# Altium footprint library LPEDT_Parts.PcbLib: 27 footprints (part 1 of 2)
Each footprint in its own frame and in the unit in brackets; x right, y up, seen from the top. Pads: shape width x height; smd on the part's side, far side on the other; paste and mask are expansions set on the pad; w line width, h text height; cw(c..) or ccw(c..) is an arc to the next point about the centre after c.
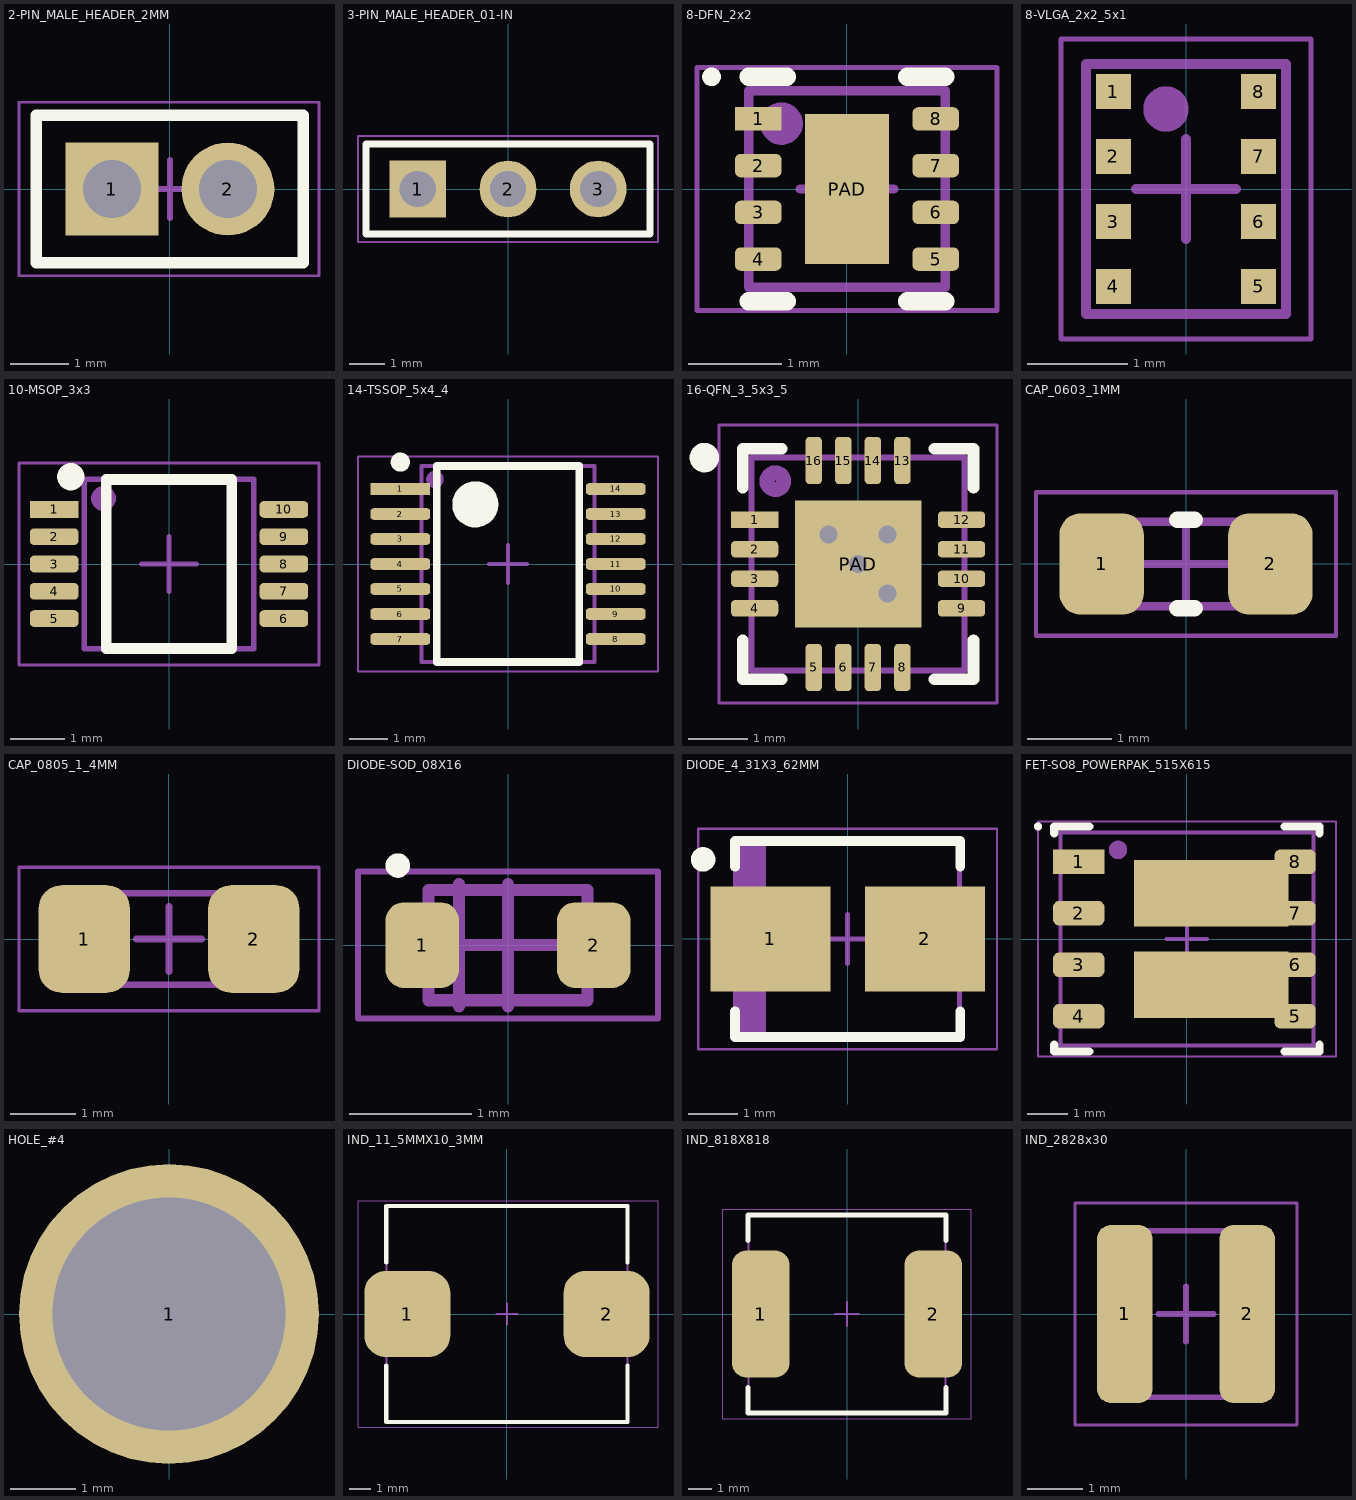
[diagram p0: the footprints below, top view; thin cyan lines are the x and y axes]

## 2-PIN_MALE_HEADER_2MM [mm] "2MM SQ Post Terminal Strip Assembly, 1x2 Pins, Vertical, 2mm Pitch, Male"
height 8.58
pads (2):
  rect 1.6x1.6 hole 1: 1(-1,0)
  round 1.6 hole 1: 2(1,0)
Top Overlay:
  lines w0.2: -2.3,-1.27 2.3,-1.27 2.3,1.27 -2.3,1.27 -2.3,-1.27
Mechanical 13:
  lines w0.1: -2.3,-1.3 2.3,-1.3 2.3,1.3 -2.3,1.3 -2.3,-1.3
  text ".Designator" at -1.1,-2.1 h1.3
Mechanical 15:
  lines w0.05: -2.6,-1.495 -2.6,1.495 2.57,1.495 2.57,0.747 2.57,-0.748 2.57,-1.495 -2.6,-1.495
  lines w0.1: -0.5,0 0.5,0 ; 0,-0.5 0,0.5

## 3-PIN_MALE_HEADER_01-IN [mm] ".025 SQ Post Terminal Strip Assembly, 1x3 Pins, Vertical, 2.54mm Pitch, Male"
height 8.58
pads (3):
  rect 1.6x1.6 hole 1.02: 1(-2.54,0)
  round 1.6 hole 1.02: 2(0,0) 3(2.54,0)
Top Overlay:
  lines w0.2: -4,-1.27 -4,1.27 4,1.27 4,-1.27 -4,-1.27
Mechanical 13:
  lines w0.1: -4,-1.27 -4,1.27 4,1.27 4,-1.27 -4,-1.27
  text ".Designator" at -1.524,-0.635 h1.3
Mechanical 15:
  lines w0.05: -4.225,-1.495 -4.225,1.495 4.225,1.495 4.225,-1.495 -4.225,-1.495
  lines w0.1: -0.5,0 0.5,0 ; 0,-0.5 0,0.5
3D body "User Library-Header_Male_3Pin.STEP": height 8.54, standoff -3, extent -3.81,-1.27 3.81,1.22

## 8-DFN_2x2 [mm] "DFN, 8-Leads, Body 2.00x2.00mm, Pitch 0.50mm, Thermal Pad 1.60x0.69mm, IPC Medium Density"
pads (9):
  rect 0.5x0.25 smd mask+0.07: 1(-0.95,0.75)
  rrect50% 0.5x0.25 smd mask+0.07: 2(-0.95,0.25) 3(-0.95,-0.25) 4(-0.95,-0.75) 5(0.95,-0.75) 6(0.95,-0.25) 7(0.95,0.25) 8(0.95,0.75)
  rect 0.9x1.6 smd paste-1 mask+0.07: PAD(0,0)
Top Overlay:
  circle w0.1: c-1.45,1.2 r0.05
  lines w0.2: -1.05,-1.2 -0.645,-1.2 ; -1.05,1.2 -0.645,1.2 ; 0.645,-1.2 1.05,-1.2 ; 0.645,1.2 1.05,1.2
Top Paste:
  region: 0.45,-0.1 -0.45,-0.1 -0.45,-0.8 0.45,-0.8
  rectangle: -0.45,0.1 0.45,0.8
Mechanical 13:
  circle w0.254: c-0.7,0.7 r0.1
  lines w0.1: -1.05,-1.05 -1.05,1.05 1.05,1.05 1.05,-1.05 -1.05,-1.05
  text ".Designator" at -0.8,-0.583 h0.65
Mechanical 15:
  lines w0.05: -1.605,-1.3 -1.605,1.3 1.605,1.3 1.605,-1.3 -1.605,-1.3
  lines w0.1: -0.5,0 0.5,0 ; 0,-0.5 0,0.5
3D body: height 0.8, standoff 0, extent -1.05,-1.05 1.05,1.05

## 8-VLGA_2x2_5x1 [mm] "VLGA, 8-Leads, Body 2.00x2.50mmx1.00mm, Pitch 0.65mm"
height 1
pads (8):
  rect 0.35x0.35 smd: 1(-0.725,0.975) 2(-0.725,0.325) 3(-0.725,-0.325) 4(-0.725,-0.975) 5(0.725,-0.975) 6(0.725,-0.325) 7(0.725,0.325) 8(0.725,0.975)
Mechanical 13:
  circle w0.254: c-0.2,0.8 r0.1
  lines w0.1: -1,-1.25 1,-1.25 1,1.25 -1,1.25 -1,-1.25
  text ".Designator" at 0.133,-1 h0.5
Mechanical 15:
  lines w0.05: -1.25,-1.5 1.25,-1.5 1.25,1.5 -1.25,1.5 -1.25,-1.5
  lines w0.1: -0.5,0 0.5,0 ; 0,-0.5 0,0.5
3D body "LGA8C65P2X4_200X250X100.step": height 1, standoff 0, extent -1.05,-1.5 1.05,1.1

## 10-MSOP_3x3 [mm] "MSOP, 10-Leads, Body 3.00x3.00mm, Pitch 0.50mm, IPC Medium Density"
height 1.1
pads (10):
  rect 0.889x0.305 smd mask+0.061: 1(-2.105,1)
  rrect50% 0.889x0.305 smd mask+0.061: 2(-2.105,0.5) 3(-2.105,0) 4(-2.105,-0.5) 5(-2.105,-1) 6(2.106,-1) 7(2.106,-0.5) 8(2.106,0) 9(2.106,0.5) 10(2.106,1)
Top Overlay:
  circle w0.25: c-1.8,1.6 r0.125
  lines w0.2: -1.15,-1.55 -1.15,1.55 1.15,1.55 1.15,-1.55 -1.15,-1.55
Mechanical 13:
  circle w0.254: c-1.2,1.2 r0.1
  lines w0.1: -1.55,-1.55 -1.55,1.55 1.55,1.55 1.55,-1.55 -1.55,-1.55
  text ".Designator" at -1.175,-1.158 h0.65
Mechanical 15:
  lines w0.05: -2.75,-1.85 -1.575,-1.85 1.575,-1.85 2.75,-1.85 2.75,-0.925 2.75,0.925 2.75,1.85 1.575,1.85 -1.575,1.85 -2.75,1.85 -2.75,0.925 -2.75,-0.925 -2.75,-1.85
  lines w0.1: -0.5,0 0.5,0 ; 0,-0.5 0,0.5
3D body "10-MSOP_3x3.step": height 1.1, standoff 0, extent -2.45,-1.55 2.45,1.55

## 14-TSSOP_5x4_4 [mm] "TSSOP, 14-Leads, Body 5.00x4.40mm, Pitch 0.65mm, IPC Medium Density"
height 1.2
pads (14):
  rect 1.55x0.3 smd: 1(-2.8,1.95)
  rrect50% 1.55x0.3 smd: 2(-2.8,1.3) 3(-2.8,0.65) 4(-2.8,0) 5(-2.8,-0.65) 6(-2.8,-1.3) 7(-2.8,-1.95) 8(2.8,-1.95) 9(2.8,-1.3) 10(2.8,-0.65) 11(2.8,0) 12(2.8,0.65) 13(2.8,1.3) 14(2.8,1.95)
Top Overlay:
  circle w0.6: c-0.85,1.55 r0.3
  circle w0.25: c-2.8,2.65 r0.125
  lines w0.2: -1.85,-2.55 1.85,-2.55 1.85,2.55 -1.85,2.55 -1.85,-2.55
Mechanical 13:
  circle w0.254: c-1.9,2.2 r0.1
  lines w0.1: -2.25,-2.55 2.25,-2.55 2.25,2.55 -2.25,2.55 -2.25,-2.55
  text ".Designator" at -0.875,-1.758 h0.65
Mechanical 15:
  lines w0.05: -3.9,-2.8 3.9,-2.8 3.9,2.8 -3.9,2.8 -3.9,-2.8
  lines w0.1: -0.5,0 0.5,0 ; 0,-0.5 0,0.5
3D body "14-TSOP_5x4_4.step": height 1.2, standoff 0, extent -3.2,-2.55 3.2,2.55

## 16-QFN_3_5x3_5 [mm] "QFN, 16-Leads, Body 3.50x3.50mm, Pitch 0.50mm, Thermal Pad 1.78x1.78mm, IPC Medium Density"
height 1
pads (17):
  rect 0.8x0.28 smd mask+0.076: 1(-1.75,0.75)
  rrect50% 0.8x0.28 smd mask+0.076: 2(-1.75,0.25) 3(-1.75,-0.25) 4(-1.75,-0.75) 9(1.75,-0.75) 10(1.75,-0.25) 11(1.75,0.25) 12(1.75,0.75)
  rrect50% 0.28x0.8 smd mask+0.076: 5(-0.75,-1.75) 6(-0.25,-1.75) 7(0.25,-1.75) 8(0.75,-1.75) 13(0.75,1.75) 14(0.25,1.75) 15(-0.25,1.75) 16(-0.75,1.75)
  rect 2.14x2.14 smd paste-25: PAD(0,0)
via 0,0 diameter 0.61 hole 0.305
via 0.5,-0.5 diameter 0.61 hole 0.305
via 0.5,0.5 diameter 0.61 hole 0.305
via -0.5,0.5 diameter 0.61 hole 0.305
Top Overlay:
  circle w0.25: c-2.6,1.8 r0.125
  lines w0.2: -1.95,-1.29 -1.95,-1.95 -1.29,-1.95 ; -1.95,1.29 -1.95,1.95 -1.29,1.95 ; 1.29,-1.95 1.95,-1.95 1.95,-1.29 ; 1.29,1.95 1.95,1.95 1.95,1.29
Top Paste:
  rectangle: -1,0.15 -0.15,1
  rectangle: 0.15,0.15 1,1
  rectangle: 0.15,-1 1,-0.15
  rectangle: -1,-1 -0.15,-0.15
Mechanical 13:
  circle w0.254: c-1.4,1.4 r0.141
  lines w0.1: -1.8,-1.8 1.8,-1.8 1.8,1.8 -1.8,1.8 -1.8,-1.8
  text ".Designator" at -1.475,-1.258 h0.65
Mechanical 15:
  lines w0.05: -2.35,-2.35 2.35,-2.35 2.35,2.35 -2.35,2.35 -2.35,-2.35
  lines w0.1: -0.5,0 0.5,0 ; 0,-0.5 0,0.5
3D body "16-QFN_3_5x3_5.step": height 1, standoff 0, extent -1.85,-1.85 1.85,1.85

## CAP_0603_1MM [mm] "Chip Capacitor, 2-Leads, Body 1.60x0.80mm, IPC Medium Density"
height 1
pads (2):
  rrect50% 1x1.2 smd: 1(-1,0) 2(1,0)
Top Overlay:
  lines w0.2: -0.1,-0.525 0.1,-0.525 ; -0.1,0.525 0.1,0.525
Mechanical 13:
  lines w0.1: -0.9,-0.5 0.9,-0.5 0.9,0.5 -0.9,0.5 -0.9,-0.5
  text ".Designator" at -0.723,-0.254 h0.5
Mechanical 15:
  lines w0.05: -1.778,-0.85 1.778,-0.85 1.778,0.85 -1.778,0.85 -1.778,-0.85
  lines w0.1: -0.5,0 0.5,0 ; 0,-0.5 0,0.5
3D body "CAP_0603_1608X10.step": height 1, standoff 0, extent -0.9,-0.5 0.9,0.5

## CAP_0805_1_4MM [mm] "Chip Capacitor, 2-Leads, Body 2.00x1.25mm, IPC Medium Density"
height 1.4
pads (2):
  rrect50% 1.4x1.65 smd: 1(-1.3,0) 2(1.3,0)
Mechanical 13:
  lines w0.1: -1.075,-0.7 1.075,-0.7 1.075,0.7 -1.075,0.7 -1.075,-0.7
  text ".Designator" at -0.8,-0.333 h0.5
Mechanical 15:
  lines w0.05: -2.3,-1.1 2.3,-1.1 2.3,1.1 -2.3,1.1 -2.3,-1.1
  lines w0.1: -0.5,0 0.5,0 ; 0,-0.5 0,0.5
3D body "CAPC2012X14N.step": height 1.4, standoff 0, extent -1.075,-0.7 1.075,0.7

## DIODE-SOD_08X16 [mm] "SODFL, 2-Leads, Body 0.80x1.60mm, IPC Medium Density"
height 0.65
pads (2):
  rrect50% 0.6x0.7 smd: 1(-0.7,0) 2(0.7,0)
Top Overlay:
  circle w0.1: c-0.9,0.65 r0.05
Mechanical 13:
  lines w0.1: -0.4,-0.5 -0.4,0.5 ; -0.65,-0.45 0.65,-0.45 0.65,0.45 -0.65,0.45 -0.65,-0.45
  text ".Designator" at -0.3,-0.217 h0.4
Mechanical 15:
  lines w0.05: -1.225,-0.6 1.225,-0.6 1.225,0.6 -1.225,0.6 -1.225,-0.6
  lines w0.1: -0.5,0 0.5,0 ; 0,-0.5 0,0.5
3D body "DIODE-SOD_08X16.step": height 0.65, standoff 0, extent -0.8,-0.45 0.8,0.45

## DIODE_4_31X3_62MM [mm] "Molded Diode, 2-Leads, Body 4.31x3.62mm, IPC Medium Density"
height 3.3
pads (2):
  rect 2.45x2.15 smd: 1(-1.575,0) 2(1.575,0)
Top Overlay:
  circle w0.25: c-2.95,1.625 r0.125
  lines w0.2: -2.3,-1.475 -2.3,-2 2.3,-2 2.3,-1.475 ; -2.3,1.475 -2.3,2 2.3,2 2.3,1.475
Mechanical 13:
  rectangle: -2.285,-1.97 -1.67,1.97
  lines w0.1: -2.285,-1.97 -2.285,1.97 2.285,1.97 2.285,-1.97 -2.285,-1.97
  text ".Designator" at -0.975,-1.467 h0.63
Mechanical 15:
  lines w0.05: -3.05,-2.25 -3.05,2.25 3.05,2.25 3.05,-2.25 -3.05,-2.25
  lines w0.1: -0.5,0 0.5,0 ; 0,-0.5 0,0.5
3D body "DIOM4336X33N.step": height 3.3, standoff 0, extent -2.505,-1.97 2.505,1.97

## FET-SO8_POWERPAK_515X615 [mm] "SO8, 8-Leads, POWERPAK, Body 5.15x6.15mm, Pitch 1.27mm, Thermal Pad 1.60x0.69mm, IPC Medium Density"
height 1.12
pads (10):
  rect 1.27x0.61 smd: 1(-2.67,1.905)
  rrect50% 1.27x0.61 smd: 2(-2.67,0.635) 3(-2.67,-0.635) 4(-2.67,-1.905)
  rrect50% 1.02x0.61 smd: 5(2.67,-1.905) 6(2.67,-0.635) 7(2.67,0.635) 8(2.67,1.905)
  rect 3.81x1.65 smd: ""(0.6,-1.13) ""(0.6,1.13)
Top Overlay:
  circle w0.1: c-3.675,2.78 r0.05
  lines w0.2: -3.275,-2.61 -3.275,-2.78 -2.41,-2.78 ; -3.275,2.61 -3.275,2.78 -2.41,2.78 ; 2.41,-2.78 3.275,-2.78 3.275,-2.61 ; 2.41,2.78 3.275,2.78 3.275,2.61
Mechanical 13:
  circle w0.254: c-1.7,2.2 r0.1
  lines w0.1: -3.125,-2.63 3.125,-2.63 3.125,2.63 -3.125,2.63 -3.125,-2.63
  text ".Designator" at -1.975,-2.767 h0.63
Mechanical 15:
  lines w0.05: -3.68,-2.9 3.68,-2.9 3.68,2.9 -3.68,2.9 -3.68,-2.9
  lines w0.1: -0.5,0 0.5,0 ; 0,-0.5 0,0.5
3D body "FET-SO8_POWERPAK_515X615.step": height 1.12, standoff 0, extent -3.455,-2.63 3.455,2.63

## HOLE_#4 [mil]
pads (1):
  round 180 hole 140: 1(0,0)

## IND_11_5MMX10_3MM [mm] "Molded Inductor, 2-Leads, Body 11.50x10.00mm, IPC Medium Density"
height 4
pads (2):
  rrect50% 4.1x4.1 smd: 1(-4.75,0) 2(4.75,0)
Top Overlay:
  lines w0.2: -5.75,-2.45 -5.75,-5.15 5.75,-5.15 5.75,-2.45 ; -5.75,2.45 -5.75,5.15 5.75,5.15 5.75,2.45
Mechanical 13:
  lines w0.1: -5.75,-5.15 -5.75,5.15 5.75,5.15 5.75,-5.15 -5.75,-5.15
  text ".Designator" at -4.146,-4.338 h1.52
Mechanical 15:
  lines w0.05: -7.1,-5.4 7.2,-5.4 7.2,5.4 -7.1,5.4 -7.1,-5.4
  lines w0.1: -0.5,0 0.5,0 ; 0,-0.5 0,0.5
3D body "IND_11_5MMX10_3MM.step": height 4, standoff 0, extent -5.97,-5.15 5.97,5.15

## IND_818X818 [mil] "Molded Inductor, 2-Leads, Body 8.18x8.18mm, IPC Medium Density"
height 157.48
pads (2):
  rrect50% 95x210 smd: 1(-142.5,0) 2(142.5,0)
Top Overlay:
  lines w7.87: -163.39,-120.75 -163.39,-163.39 163.39,-163.39 163.39,-120.75 ; -163.39,120.75 -163.39,163.39 163.39,163.39 163.39,120.75
Mechanical 13:
  lines w3.94: -162.6,-162.6 -162.6,162.6 162.6,162.6 162.6,-162.6 -162.6,-162.6
  text ".Designator" at -80,-135.01 h60
Mechanical 15:
  lines w1.97: -205,-173.23 -205,173.23 205,173.23 205,-173.23 -205,-173.23
  lines w3.94: -19.68,0 19.68,0 ; 0,-19.68 0,19.68
3D body "IND_818X818.step": height 157.48, standoff 0, extent -171.26,-162.6 171.26,162.6

## IND_2828x30 [mm] "Precision Wire Wound Inductor, 2-Leads, Body 2.80x2.80mm, IPC Medium Density"
height 3
pads (2):
  rrect50% 1x3.2 smd: 1(-1.1,0) 2(1.1,0)
Mechanical 13:
  lines w0.1: -1.5,-1.5 -1.5,1.5 1.5,1.5 1.5,-1.5 -1.5,-1.5
  text ".Designator" at -1.12,-0.92 h0.9
Mechanical 15:
  lines w0.05: -2,-2 -2,-0.45 -2,2 2,2 2,-2 -2,-2
  lines w0.1: -0.5,0 0.5,0 ; 0,-0.5 0,0.5
3D body "744025001_Download_STP_WE-TPC-2828_rev1.stp": height 2.8, standoff 0, extent -1.4,-1.4 1.4,1.4